# EAGLE library part FT2232H (library WarthogRobotics-IC- CommunicationInterface)
FTDI
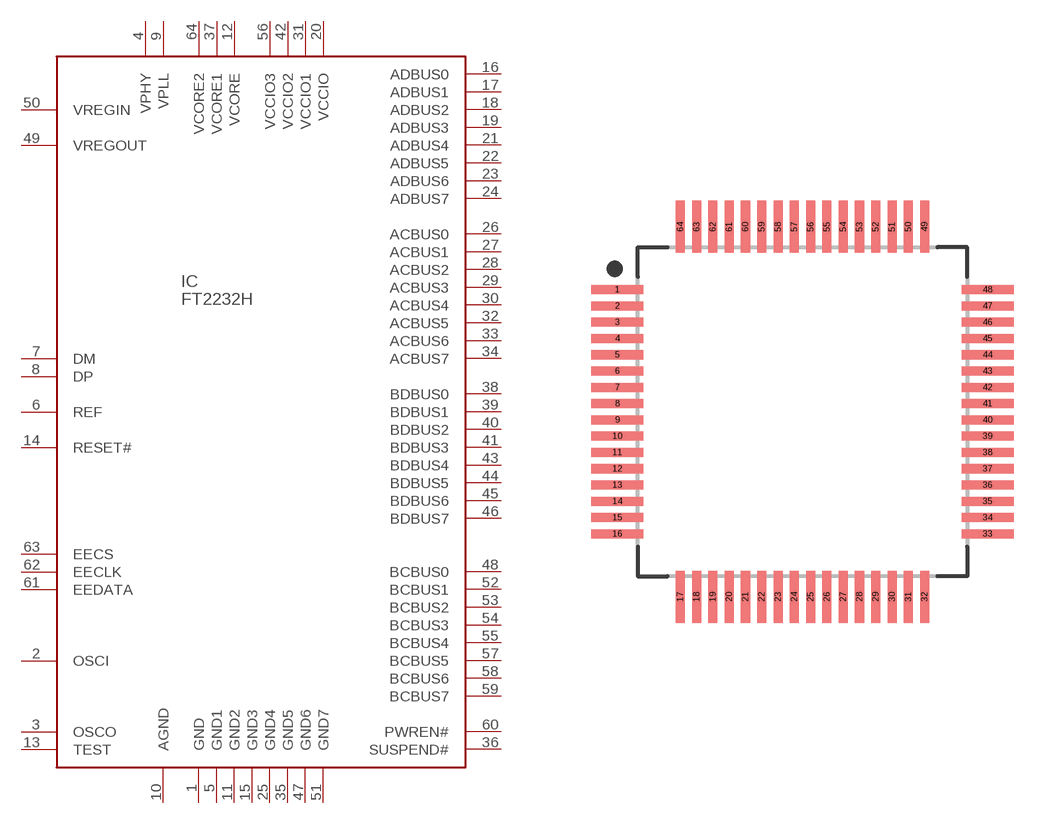
[diagram p0: symbol with the pads of QFN-64(N); footprint QFN-64(N)]

Designator prefix IC

## FT2232H  [QFN-64(N)]
1  GND
2  OSCI
3  OSCO
4  VPHY
5  GND1
6  REF
7  DM
8  DP
9  VPLL
10  AGND
11  GND2
12  VCORE
13  TEST
14  RESET#
15  GND3
16  ADBUS0
17  ADBUS1
18  ADBUS2
19  ADBUS3
20  VCCIO
21  ADBUS4
22  ADBUS5
23  ADBUS6
24  ADBUS7
25  GND4
26  ACBUS0
27  ACBUS1
28  ACBUS2
29  ACBUS3
30  ACBUS4
31  VCCIO1
32  ACBUS5
33  ACBUS6
34  ACBUS7
35  GND5
36  SUSPEND#
37  VCORE1
38  BDBUS0
39  BDBUS1
40  BDBUS2
41  BDBUS3
42  VCCIO2
43  BDBUS4
44  BDBUS5
45  BDBUS6
46  BDBUS7
47  GND6
48  BCBUS0
49  VREGOUT
50  VREGIN
51  GND7
52  BCBUS1
53  BCBUS2
54  BCBUS3
55  BCBUS4
56  VCCIO3
57  BCBUS5
58  BCBUS6
59  BCBUS7
60  PWREN#
61  EEDATA
62  EECLK
63  EECS
64  VCORE2

## Footprint QFN-64(N) (pad centres in mm)
64-QFP, 0.50 mm pitch, 12.00 mm span, 10.00 X 10.00 X 1.60 mm body 64-pin QFP package with 0.50 mm pitch, 12.00 mm lead span1 X 12.00 mm lead span2 with body size 10.00 X 10.00 X 1.60 mm
smd 1.6 x 0.28: 1 -5.681,3.75; 2 -5.681,3.25; 3 -5.681,2.75; 4 -5.681,2.25; 5 -5.681,1.75; 6 -5.681,1.25; 7 -5.681,0.75; 8 -5.681,0.25; 9 -5.681,-0.25; 10 -5.681,-0.75; 11 -5.681,-1.25; 12 -5.681,-1.75; 13 -5.681,-2.25; 14 -5.681,-2.75; 15 -5.681,-3.25; 16 -5.681,-3.75; 33 5.681,-3.75; 34 5.681,-3.25; 35 5.681,-2.75; 36 5.681,-2.25; 37 5.681,-1.75; 38 5.681,-1.25; 39 5.681,-0.75; 40 5.681,-0.25; 41 5.681,0.25; 42 5.681,0.75; 43 5.681,1.25; 44 5.681,1.75; 45 5.681,2.25; 46 5.681,2.75; 47 5.681,3.25; 48 5.681,3.75
smd 0.28 x 1.6: 17 -3.75,-5.681; 18 -3.25,-5.681; 19 -2.75,-5.681; 20 -2.25,-5.681; 21 -1.75,-5.681; 22 -1.25,-5.681; 23 -0.75,-5.681; 24 -0.25,-5.681; 25 0.25,-5.681; 26 0.75,-5.681; 27 1.25,-5.681; 28 1.75,-5.681; 29 2.25,-5.681; 30 2.75,-5.681; 31 3.25,-5.681; 32 3.75,-5.681; 49 3.75,5.681; 50 3.25,5.681; 51 2.75,5.681; 52 2.25,5.681; 53 1.75,5.681; 54 1.25,5.681; 55 0.75,5.681; 56 0.25,5.681; 57 -0.25,5.681; 58 -0.75,5.681; 59 -1.25,5.681; 60 -1.75,5.681; 61 -2.25,5.681; 62 -2.75,5.681; 63 -3.25,5.681; 64 -3.75,5.681